# Altium footprint library CornellBajaLibrary.PcbLib: 134 footprints (part 8 of 9)
Each footprint in its own frame and in the unit in brackets; x right, y up, seen from the top. Pads: shape width x height; smd on the part's side, far side on the other; paste and mask are expansions set on the pad; w line width, h text height; cw(c..) or ccw(c..) is an arc to the next point about the centre after c.
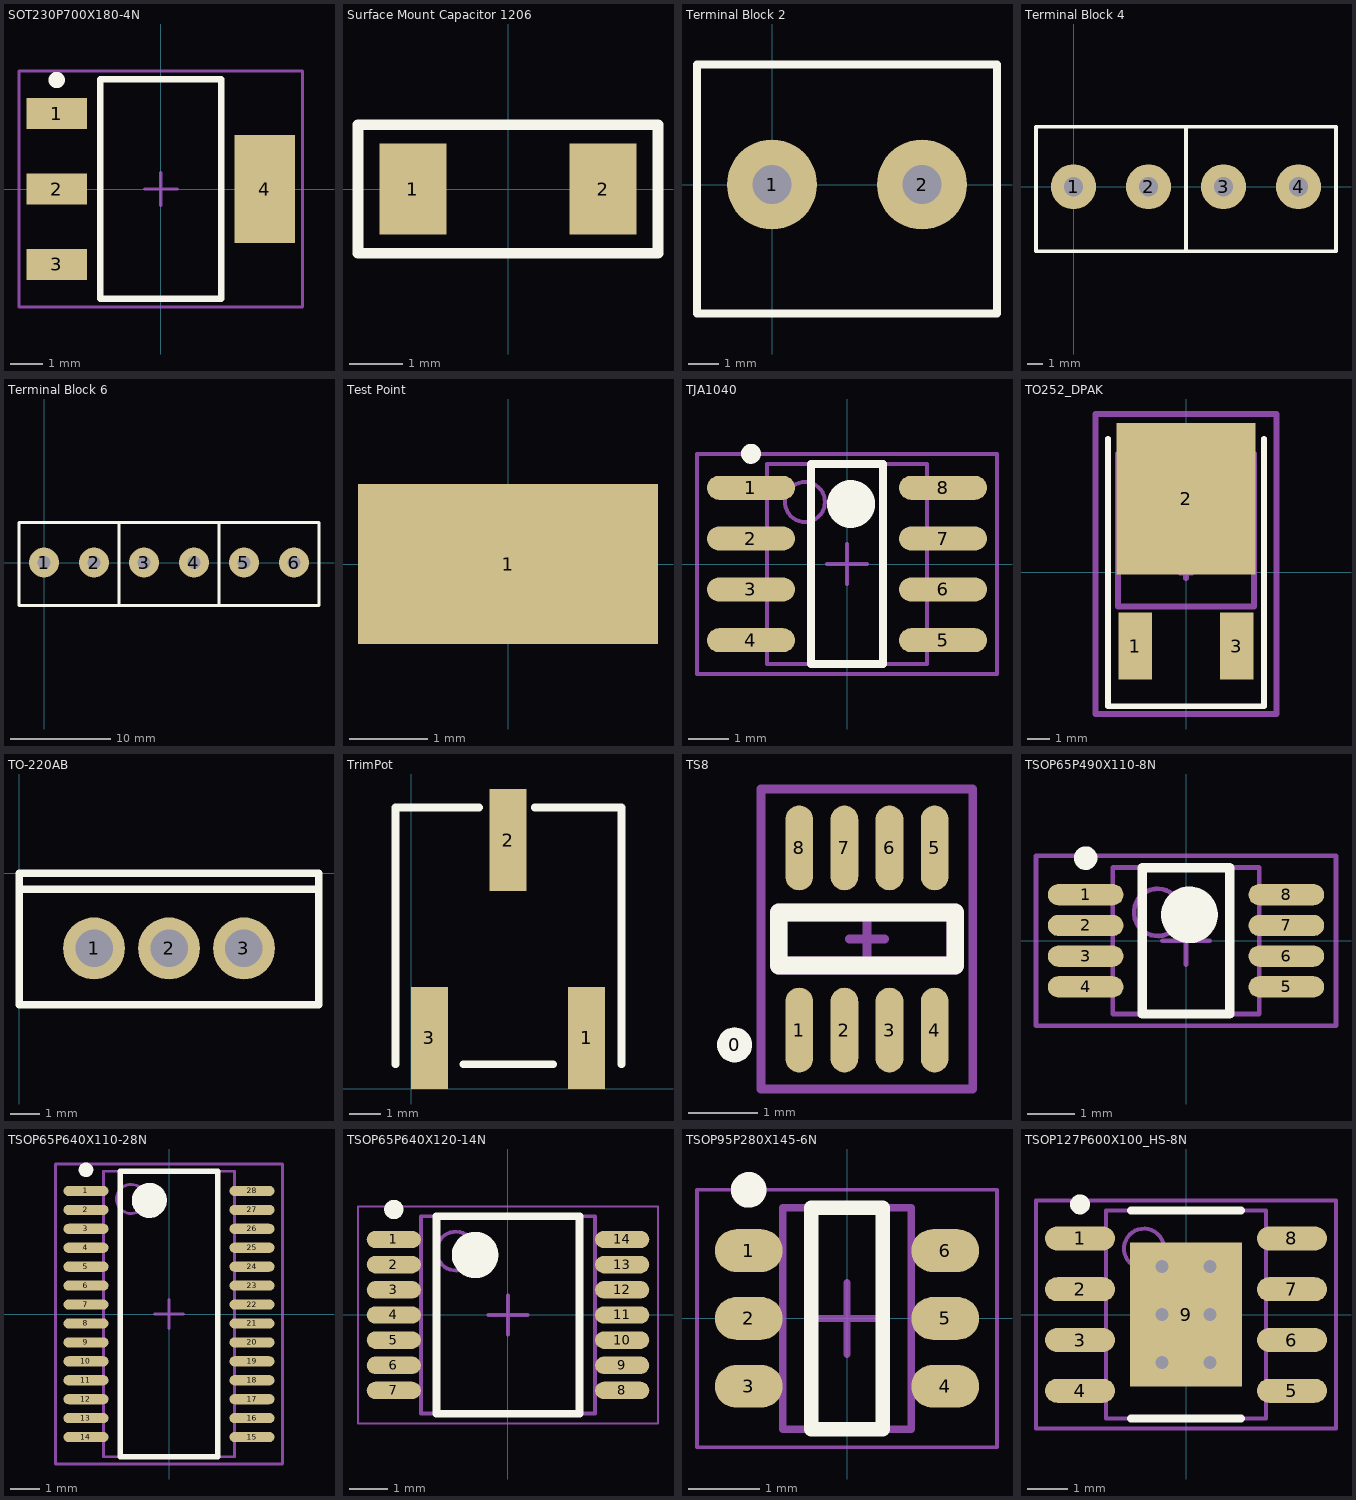
[diagram p7: the footprints below, top view; thin cyan lines are the x and y axes]

## SOT230P700X180-4N [mm] "SOT223, 4-Leads, Body 6.7x7.3mm (max), Pitch 2.30mm, IPC Medium Density"
height 1.8
pads (4):
  rect 1.85x0.95 smd: 1(-3.175,2.3) 2(-3.175,0) 3(-3.175,-2.3)
  rect 1.85x3.3 smd: 4(3.175,0)
Top Overlay:
  circle w0.25: c-3.175,3.325 r0.125
  lines w0.2: -1.85,-3.35 -1.85,3.35 1.85,3.35 1.85,-3.35 -1.85,-3.35
Mechanical 13:
  lines w0.1: -1.85,-3.35 -1.85,3.35 1.85,3.35 1.85,-3.35 -1.85,-3.35
Mechanical 15:
  lines w0.1: -0.5,0 0.5,0 ; 0,-0.5 0,0.5 ; -4.325,-3.6 -4.325,3.6 4.325,3.6 4.325,-3.6 -4.325,-3.6
3D body: height 1.8, standoff 0.02, extent -1.85,-3.35 1.85,3.35

## Surface Mount Capacitor 1206 [mm]
pads (2):
  rect 1.25x1.7 smd: 1(-1.775,0) 2(1.775,0)
Top Overlay:
  lines w0.2: -2.8,-1.2 -2.8,0.5 -2.8,1.2 2.8,1.2 2.8,-1.2 -2.8,-1.2
3D body: height 1.2, standoff 0, extent -1.6,-0.8 1.6,0.8

## Terminal Block 2 [mm]
height 11.5
pads (2):
  round 3 hole 1.3: 1(0,0) 2(5,0)
Top Overlay:
  lines w0.254: -2.5,-4.3 7.5,-4.3 7.5,4 -2.5,4 -2.5,-4.3

## Terminal Block 4 [mm]
height 11.5
pads (4):
  round 3 hole 1.3: 1(0,0) 2(5,0) 3(10,0) 4(15,0)
Top Overlay:
  lines w0.254: 7.5,-4.3 -2.5,-4.3 -2.5,4 7.5,4 ; 7.5,-4.3 7.5,4 ; 7.5,-4.3 7.5,4 ; 7.5,-4.3 17.5,-4.3 17.5,4 7.5,4

## Terminal Block 6 [mm]
height 11.5
pads (6):
  round 3 hole 1.3: 1(0,0) 2(5,0) 3(10,0) 4(15,0) 5(20,0) 6(25,0)
Top Overlay:
  lines w0.254: 7.5,-4.3 17.5,-4.3 ; 7.5,-4.3 7.5,4 ; 7.5,-4.3 7.5,4 ; 7.5,-4.3 -2.5,-4.3 -2.5,4 7.5,4 ; 7.5,4 17.5,4 ; 17.5,-4.3 27.5,-4.3 27.5,4 17.5,4 ; 17.5,-4.3 17.5,4 ; 17.5,-4.3 17.5,4

## Test Point [mil]
pads (1):
  rect 150x80 smd: 1(0,0)
3D body: height 90, standoff 1, extent -75,-30 75,30

## TJA1040 [mm] "SOIC, 8-Leads, Body 5.0x4.0mm (max), Pitch 1.27mm, IPC Medium Density"
height 1.75
pads (8):
  oval 2.2x0.6 smd: 1(-2.4,1.905) 2(-2.4,0.635) 3(-2.4,-0.635) 4(-2.4,-1.905) 5(2.4,-1.905) 6(2.4,-0.635) 7(2.4,0.635) 8(2.4,1.905)
Top Overlay:
  circle w0.6: c0.1,1.5 r0.3
  circle w0.25: c-2.4,2.755 r0.125
  lines w0.2: -0.9,-2.5 0.9,-2.5 0.9,2.5 -0.9,2.5 -0.9,-2.5
Mechanical 13:
  circle w0.1: c-1.05,1.55 r0.5
  lines w0.1: -2,-2.5 2,-2.5 2,2.5 -2,2.5 -2,-2.5
Mechanical 15:
  lines w0.1: -0.5,0 0.5,0 ; 0,-0.5 0,0.5 ; -3.75,-2.75 3.75,-2.75 3.75,2.75 -3.75,2.75 -3.75,-2.75
3D body: height 1.75, standoff 0.1, extent -2,-2.5 2,2.5

## TO252_DPAK [mm]
height 2.286
pads (3):
  rect 1.5x3 smd: 1(-2.286,-3.3) 3(2.286,-3.3)
  rect 6.25x6.8 smd: 2(0,3.3)
Top Overlay:
  lines w0.254: -3.5,6 -3.5,-6 3.5,-6 3.5,6
Mechanical 13:
  lines w0.254: -3.048,-1.524 -3.048,5.334 3.048,5.334 3.048,-1.524 0,-1.524 -3.048,-1.524
Mechanical 15:
  lines w0.254: -0.254,0 0.254,0 ; 0,-0.254 0,0.254 ; -4.064,-6.35 -4.064,7.112 4.064,7.112 4.064,-6.35 -4.064,-6.35
3D body: height 2.29, standoff 0, extent -3.047,-1.523 3.047,5.333

## TO-220AB [mm]
pads (3):
  round 2.1 hole 1.27: 1(2.54,-2.54) 2(5.08,-2.54) 3(7.62,-2.54)
Top Overlay:
  lines w0.254: 0,-0.54 10.16,-0.54 ; 0,-4.44 10.16,-4.44 10.16,0 0,0 0,-4.44

## TrimPot [mm] "3361P-1-103GLF"
height 6
pads (3):
  rect 1.19x3.3 smd: 1(5.675,1.65) 2(3.135,8.05) 3(0.595,1.65)
Top Overlay:
  lines w0.254: -0.5,0.8 -0.5,9.1 2.2,9.1 ; 1.7,0.8 4.6,0.8 ; 4,9.1 6.8,9.1 6.8,0.8
3D body: height 5.5, standoff 0, extent -0.5,0.8 6.8,9.1

## TS8 [mm]
height 1
pads (9):
  round 0.508 on Top Overlay: 0(-1255.405,-1260.524)
  oval 0.4x1.22 smd: 1(-1254.475,-1260.31) 2(-1253.825,-1260.31) 3(-1253.175,-1260.31) 4(-1252.525,-1260.31) 5(-1252.525,-1257.69) 6(-1253.175,-1257.69) 7(-1253.825,-1257.69) 8(-1254.475,-1257.69)
Top Overlay:
  lines w0.254: -1254.77,-1259.381 -1252.23,-1259.381 -1252.23,-1258.619 -1254.77,-1258.619 -1254.77,-1259.381
Mechanical 4:
  lines w0.127: -1253.754,-1259 -1253.246,-1259 ; -1253.5,-1259.254 -1253.5,-1258.746 ; -1255.024,-1261.159 -1251.976,-1261.159 -1251.976,-1256.841 -1255.024,-1256.841 -1255.024,-1261.159
Mechanical 13:
  lines w0.254: -1254.77,-1259.381 -1254.77,-1258.619 -1252.23,-1258.619 -1252.23,-1259.381 -1254.77,-1259.381
3D body: height 1, standoff 0, extent -1254.769,-1259.38 -1252.23,-1258.619

## TSOP65P490X110-8N [mm] "TSOP, 8-Leads, Body 3.1x3.1mm (max), Pitch 0.65mm, IPC Medium Density"
height 1.1
pads (8):
  oval 1.6x0.45 smd: 1(-2.125,0.975) 2(-2.125,0.325) 3(-2.125,-0.325) 4(-2.125,-0.975) 5(2.125,-0.975) 6(2.125,-0.325) 7(2.125,0.325) 8(2.125,0.975)
Top Overlay:
  circle w0.25: c-2.125,1.75 r0.125
  circle w0.6: c0.075,0.55 r0.3
  lines w0.2: -0.925,-1.55 -0.925,1.55 0.925,1.55 0.925,-1.55 -0.925,-1.55
Mechanical 13:
  circle w0.1: c-0.6,0.6 r0.5
  lines w0.1: -1.55,-1.55 -1.55,1.55 1.55,1.55 1.55,-1.55 -1.55,-1.55
Mechanical 15:
  lines w0.1: -0.5,0 0.5,0 ; 0,-0.5 0,0.5 ; -3.175,-1.8 -3.175,1.8 3.175,1.8 3.175,-1.8 -3.175,-1.8
3D body: height 1.1, standoff 0.05, extent -1.55,-1.55 1.55,1.55

## TSOP65P640X110-28N [mm] "TSOP, 28-Leads, Body 9.8x4.5mm (max), Pitch 0.65mm, IPC Medium Density"
height 1.1
pads (28):
  oval 1.55x0.35 smd: 1(-2.85,4.225) 2(-2.85,3.575) 3(-2.85,2.925) 4(-2.85,2.275) 5(-2.85,1.625) 6(-2.85,0.975) 7(-2.85,0.325) 8(-2.85,-0.325) 9(-2.85,-0.975) 10(-2.85,-1.625) 11(-2.85,-2.275) 12(-2.85,-2.925) 13(-2.85,-3.575) 14(-2.85,-4.225) 15(2.85,-4.225) 16(2.85,-3.575) 17(2.85,-2.925) 18(2.85,-2.275) 19(2.85,-1.625) 20(2.85,-0.975) 21(2.85,-0.325) 22(2.85,0.325) 23(2.85,0.975) 24(2.85,1.625) 25(2.85,2.275) 26(2.85,2.925) 27(2.85,3.575) 28(2.85,4.225)
Top Overlay:
  circle w0.6: c-0.675,3.9 r0.3
  circle w0.25: c-2.85,4.95 r0.125
  lines w0.2: -1.675,-4.9 1.675,-4.9 1.675,4.9 -1.675,4.9 -1.675,-4.9
Mechanical 13:
  circle w0.1: c-1.3,3.95 r0.5
  lines w0.1: -2.25,-4.9 2.25,-4.9 2.25,4.9 -2.25,4.9 -2.25,-4.9
Mechanical 15:
  lines w0.1: -0.5,0 0.5,0 ; 0,-0.5 0,0.5 ; -3.9,-5.15 3.9,-5.15 3.9,5.15 -3.9,5.15 -3.9,-5.15
3D body: height 1.1, standoff 0.05, extent -2.25,-4.9 2.25,4.9

## TSOP65P640X120-14N [mm] "TSOP, 14-Leads, Body 5.00x4.40mm, Pitch 0.65mm, IPC Medium Density"
height 1.2
pads (14):
  oval 1.4x0.45 smd: 1(-2.95,1.95) 2(-2.95,1.3) 3(-2.95,0.65) 4(-2.95,0) 5(-2.95,-0.65) 6(-2.95,-1.3) 7(-2.95,-1.95) 8(2.95,-1.95) 9(2.95,-1.3) 10(2.95,-0.65) 11(2.95,0) 12(2.95,0.65) 13(2.95,1.3) 14(2.95,1.95)
Top Overlay:
  circle w0.25: c-2.95,2.725 r0.125
  circle w0.6: c-0.85,1.55 r0.3
  lines w0.2: -1.85,-2.55 -1.85,2.55 1.85,2.55 1.85,-2.55 -1.85,-2.55
Mechanical 13:
  circle w0.1: c-1.35,1.65 r0.5
  lines w0.1: -2.25,-2.55 -2.25,2.55 2.25,2.55 2.25,-2.55 -2.25,-2.55
Mechanical 15:
  lines w0.05: -3.875,-2.8 -3.875,2.8 3.875,2.8 3.875,-2.8 -3.875,-2.8
  lines w0.1: -0.5,0 0.5,0 ; 0,-0.5 0,0.5
3D body: height 1.2, standoff 0.05, extent -2.25,-2.55 2.25,2.55

## TSOP95P280X145-6N [mm] "TSOP, 6-Leads, Body 2.90x1.60mm, Pitch 0.95mm, IPC Medium Density"
height 1.45
pads (6):
  oval 0.95x0.6 smd: 1(-1.375,0.95) 2(-1.375,0) 3(-1.375,-0.95) 4(1.375,-0.95) 5(1.375,0) 6(1.375,0.95)
Top Overlay:
  circle w0.25: c-1.375,1.8 r0.125
  lines w0.2: -0.5,-1.55 0.5,-1.55 0.5,1.55 -0.5,1.55 -0.5,-1.55
Mechanical 13:
  lines w0.1: -0.9,-1.55 0.9,-1.55 0.9,1.55 -0.9,1.55 -0.9,-1.55
Mechanical 15:
  lines w0.05: -2.1,-1.8 2.1,-1.8 2.1,1.8 -2.1,1.8 -2.1,-1.8
  lines w0.1: -0.5,0 0.5,0 ; 0,-0.5 0,0.5
3D body: height 1.45, standoff 0, extent -0.9,-1.55 0.9,1.55

## TSOP127P600X100_HS-8N [mm] "TSOP, 8-Leads, Body 5.2x4.0mm (max), Pitch 1.27mm, IPC Medium Density"
height 1
pads (9):
  oval 1.75x0.6 smd: 1(-2.65,1.905) 2(-2.65,0.635) 3(-2.65,-0.635) 4(-2.65,-1.905) 5(2.65,-1.905) 6(2.65,-0.635) 7(2.65,0.635) 8(2.65,1.905)
  rect 2.8x3.6 smd: 9(0,0)
via -0.6,1.2 diameter 0.66 hole 0.33
via 0.6,1.2 diameter 0.66 hole 0.33
via -0.6,0 diameter 0.66 hole 0.33
via 0.6,0 diameter 0.66 hole 0.33
via -0.6,-1.2 diameter 0.66 hole 0.33
via 0.6,-1.2 diameter 0.66 hole 0.33
Top Overlay:
  circle w0.25: c-2.65,2.755 r0.125
  lines w0.2: -1.375,-2.6 1.375,-2.6 ; -1.375,2.6 1.375,2.6
Mechanical 13:
  circle w0.1: c-1.05,1.65 r0.5
  lines w0.1: -2,-2.6 -2,2.6 2,2.6 2,-2.6 -2,-2.6
Mechanical 15:
  lines w0.1: -0.5,0 0.5,0 ; 0,-0.5 0,0.5 ; -3.75,-2.85 -3.75,2.85 3.75,2.85 3.75,-2.85 -3.75,-2.85
3D body: height 1, standoff 0.08, extent -2,-2.6 2,2.6